# EAGLE library part R__ARRAY (library ..SMD)
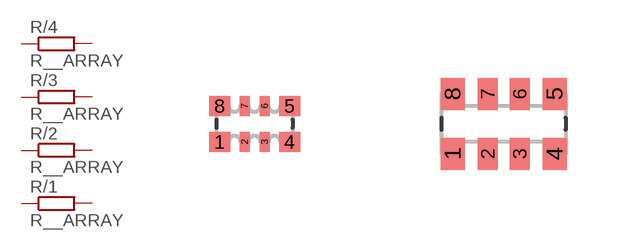
[diagram p5: symbol with the pads of RESARRAY_EXB28V; footprints RESARRAY_EXB28V, RESARRAY_EXB38V]

Designator prefix R; gates /1=WIDERSTAND /2=WIDERSTAND /3=WIDERSTAND /4=WIDERSTAND

## R__ARRAYB  [RESARRAY_EXB28V]
1  /1:1  pas
2  /2:1  pas
3  /3:1  pas
4  /4:1  pas
5  /4:2  pas
6  /3:2  pas
7  /2:2  pas
8  /1:2  pas

## R__ARRAYC  [RESARRAY_EXB38V]
Pads as for RESARRAY_EXB28V

## R__ARRAYD  [RESARRAY_EXB48V]
Pads as for RESARRAY_EXB28V

## Footprint RESARRAY_EXB28V (pad centres in mm)
smd 0.525 x 0.5: 1 -0.875,-0.45; 4 0.875,-0.45; 5 0.875,0.45; 8 -0.875,0.45
smd 0.25 x 0.5: 2 -0.25,-0.45; 3 0.25,-0.45; 6 0.25,0.45; 7 -0.25,0.45

## Footprint RESARRAY_EXB38V (pad centres in mm)
smd 0.6 x 0.8: 1 -1.275,-0.75; 4 1.275,-0.75; 5 1.275,0.75; 8 -1.275,0.75
smd 0.5 x 0.8: 2 -0.4,-0.75; 3 0.4,-0.75; 6 0.4,0.75; 7 -0.4,0.75

## Footprint RESARRAY_EXB48V (pad centres in mm)
smd 0.75 x 1.2: 1 -1.905,-1.229; 2 -0.635,-1.229; 3 0.635,-1.229; 4 1.905,-1.229; 5 1.905,1.229; 6 0.635,1.229; 7 -0.635,1.229; 8 -1.905,1.229